# EAGLE library part 74HC40103N,652 (library NXP_By_element14_Batch_1)
8-bit synchronous binary down counter
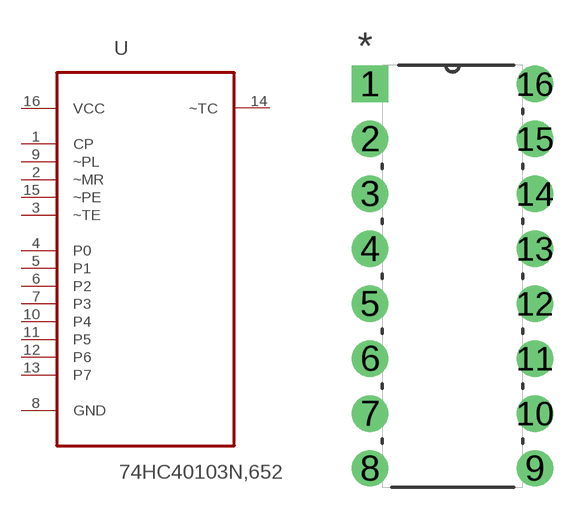
[diagram p83: symbol with the pads of DIP254P762X420-16; footprint DIP254P762X420-16]

Designator prefix U

## 74HC40103N,652 (MPN: 74HC40103N,652; OC_FARNELL: -; OC_NEWARK: 71R2435; PACKAGE: DIP-16; SUPPLIER: NXP)  [DIP254P762X420-16]
1  CP  in
2  ~MR  in
3  ~TE  in
4  P0  in
5  P1  in
6  P2  in
7  P3  in
8  GND  pas
9  ~PL  in
10  P4  in
11  P5  in
12  P6  in
13  P7  in
14  ~TC  out
15  ~PE  in
16  VCC  pwr

## Footprint DIP254P762X420-16 (pad centres in mm)
drill 1.118 square: 1 -7.62,17.78
drill 1.118: 2 -7.62,15.24; 3 -7.62,12.7; 4 -7.62,10.16; 5 -7.62,7.62; 6 -7.62,5.08; 7 -7.62,2.54; 8 -7.62,0; 9 0,0; 10 0,2.54; 11 0,5.08; 12 0,7.62; 13 0,10.16; 14 0,12.7; 15 0,15.24; 16 0,17.78